# Altium schematic symbol library Switch GOST.SchLib: 10 symbols
Pins are listed as number, name and electrical type; pins without a type are passive.

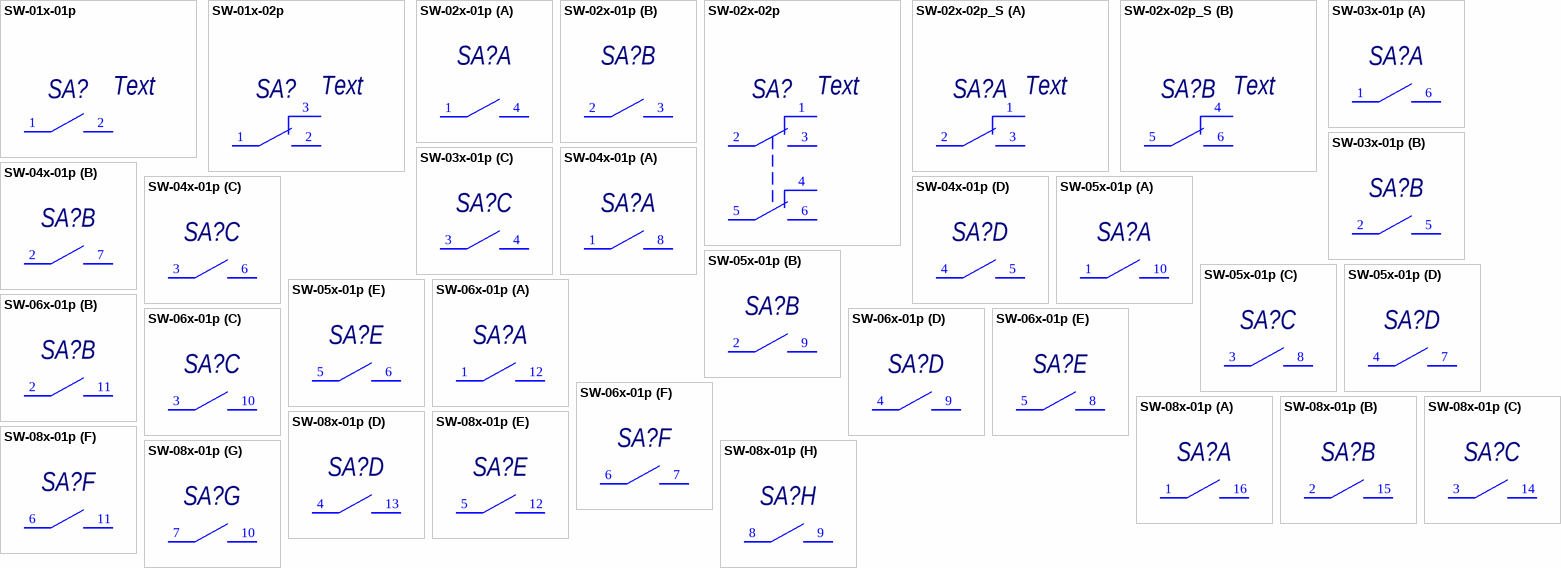
[diagram p0: symbols SW-01x-01p to SW-08x-01p]

## SW-01x-01p
designator SA?, comment Text
Published: 11.04.2014; Publisher: Andrew Danich; Type: Переключатель
pins: 1 A1, 2 B1

## SW-01x-02p
designator SA?, comment Text
Published: 17.04.2014; Publisher: Andrew Danich; Type: Переключатель
pins: 1 A1, 2 B1, 3 C1

## SW-02x-01p
designator SA?, comment Text  (value not drawn)
Published: 04.11.2015; Publisher: Andrew Danich; Type: Набор переключателей
part A pins: 1, 4
part B pins: 2, 3

## SW-02x-02p
designator SA?, comment Text
Published: 17.04.2014; Publisher: Andrew Danich; Type: Переключатель
pins: 1, 2, 3, 4, 5, 6

## SW-02x-02p_S
designator SA?, comment Text
Published: 17.04.2014; Publisher: Andrew Danich; Type: Переключатель
part A pins: 1, 2, 3
part B pins: 4, 5, 6

## SW-03x-01p
designator SA?, comment Text  (value not drawn)
Published: 04.11.2015; Publisher: Andrew Danich; Type: Набор переключателей
part A pins: 1, 6
part B pins: 2, 5
part C pins: 3, 4

## SW-04x-01p
designator SA?, comment Text  (value not drawn)
Published: 04.11.2015; Publisher: Andrew Danich; Type: Набор переключателей
part A pins: 1, 8
part B pins: 2, 7
part C pins: 3, 6
part D pins: 4, 5

## SW-05x-01p
designator SA?, comment Text  (value not drawn)
Published: 04.11.2015; Publisher: Andrew Danich; Type: Набор переключателей
part A pins: 1, 10
part B pins: 2, 9
part C pins: 3, 8
part D pins: 4, 7
part E pins: 5, 6

## SW-06x-01p
designator SA?, comment Text  (value not drawn)
Published: 04.11.2015; Publisher: Andrew Danich; Type: Набор переключателей
part A pins: 1, 12
part B pins: 2, 11
part C pins: 3, 10
part D pins: 4, 9
part E pins: 5, 8
part F pins: 6, 7

## SW-08x-01p
designator SA?, comment Text  (value not drawn)
Published: 04.11.2015; Publisher: Andrew Danich; Type: Набор переключателей
part A pins: 1, 16
part B pins: 2, 15
part C pins: 3, 14
part D pins: 4, 13
part E pins: 5, 12
part F pins: 6, 11
part G pins: 7, 10
part H pins: 8, 9